# Altium schematic symbol library SCH - OPAMP - THS4521.SCHLIB: 3 symbols
Pins are listed as number, name and electrical type; pins without a type are passive.

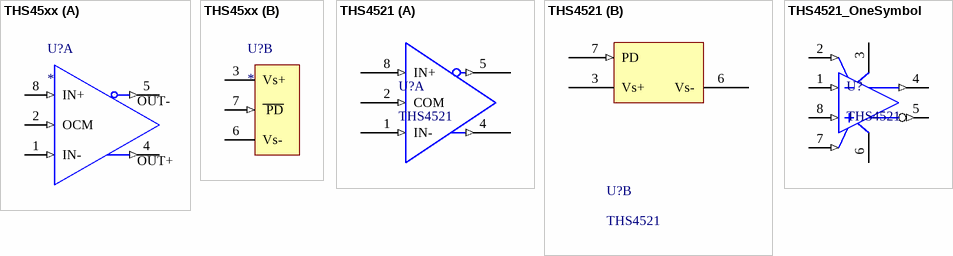
[diagram p0: symbols THS45xx to THS4521_OneSymbol]

## THS45xx
designator U?
part A pins: 1 IN- (in), 2 OCM (in), 4 OUT+ (out), 5 OUT- (out), 8 IN+ (in)
part B pins: 3 Vs+ (power), 6 Vs- (power), 7 ~{ PD} (in)

## THS4521
designator U?
Single Channel fully differential Amplilfier
part A pins: 1 IN- (in), 2 COM (in), 4 OUT+ (out), 5 OUT- (out), 8 IN+ (in)
part B pins: 3 Vs+ (power), 6 Vs- (power), 7 PD (in)

## THS4521_OneSymbol
designator U?, comment THS4521
Single Channel fully differential Amplilfier
pins: 1 VIN- (in) "Inverting amplifier input", 2 VOCM (in) "Common-mode voltage input", 3 VS+ (power) "Amplifier positive power-supply input", 4 VOUT+ (out) "Noninverting amplifier output", 5 VOUT- (out) "Inverting amplifier output", 6 VS- (power) "Amplifier negative power-supply input. Note that VS- is tied together on multi-channel devices.", 7 ~{PD} (in) "Power down. P\D\ = logic low puts device into low-power mode. P\D\ = logic high or open for normal operation.", 8 VIN+ (in) "Noninverting amplifier input"